# Altium footprint library Samtec_Custom.PcbLib: 7 footprints
Each footprint in its own frame and in the unit in brackets; x right, y up, seen from the top. Pads: shape width x height; smd on the part's side, far side on the other; paste and mask are expansions set on the pad; w line width, h text height; cw(c..) or ccw(c..) is an arc to the next point about the centre after c.
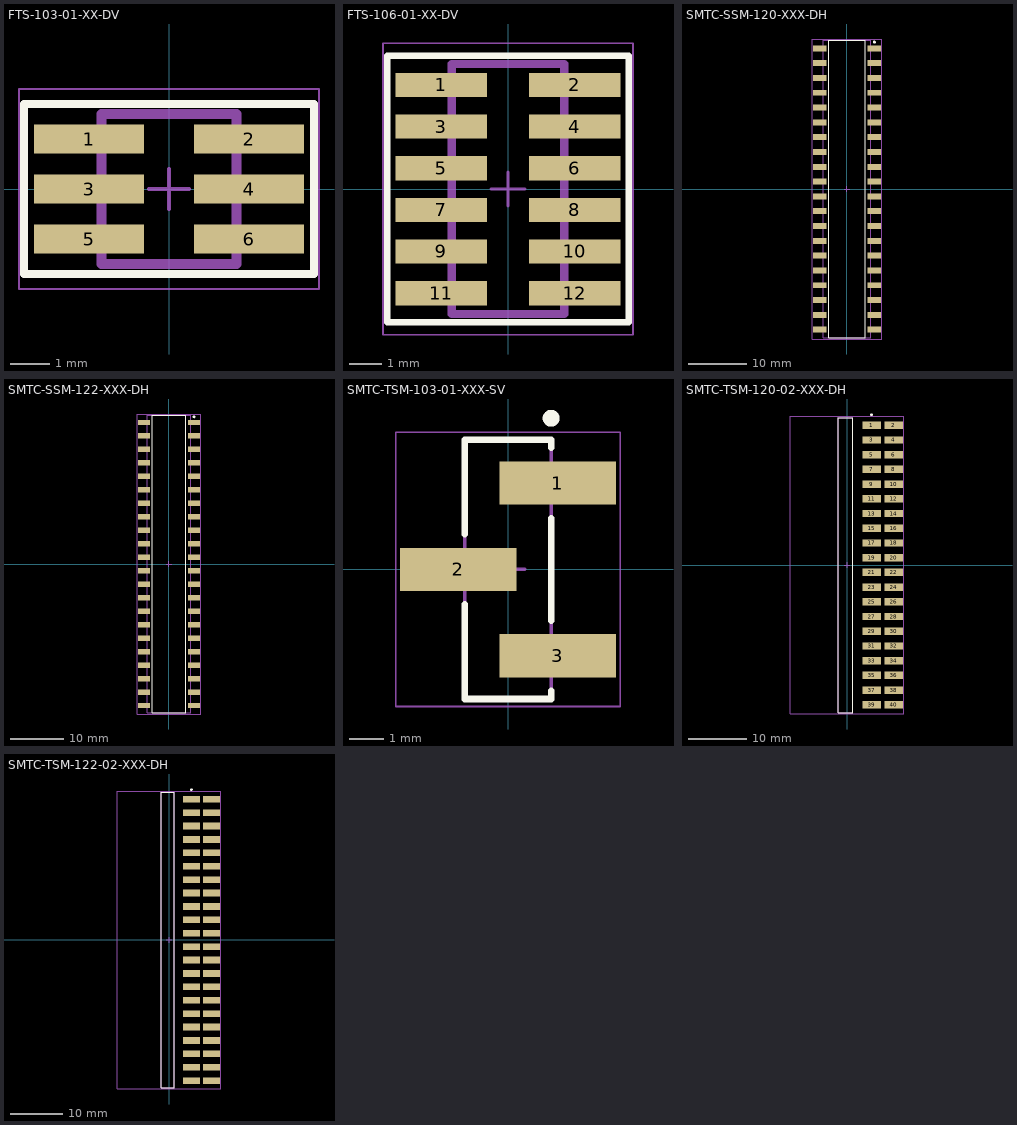
[diagram p0: the footprints below, top view; thin cyan lines are the x and y axes]

## FTS-103-01-XX-DV [mil] "0.050 inch, 2x3 Pins, double vertical, low-profile terminal strip"
pads (6):
  rect 110x29 smd mask+2: 1(-80,50) 2(80,50) 3(-80,0) 4(80,0) 5(-80,-50) 6(80,-50)
Top Overlay:
  lines w8: -145,-85 -145,85 145,85 145,-85 -145,-85
Mechanical 13:
  lines w10: -67.5,-75 67.5,-75 67.5,75 -67.5,75 -67.5,-75
Mechanical 15:
  lines w2: -150,-100 150,-100 150,100 -150,100 -150,-100
  lines w4: -20,0 20,0 ; 0,-20 0,20
3D body "FTS-103-01-F-DV.stp": height 169.75, standoff -0.25, extent -115,-74.99 115,75

## FTS-106-01-XX-DV [mil] "0.050 inch, 2x6 Pins, double vertical, low-profile terminal strip"
pads (12):
  rect 110x29 smd mask+2: 1(-80,125) 2(80,125) 3(-80,75) 4(80,75) 5(-80,25) 6(80,25) 7(-80,-25) 8(80,-25) 9(-80,-75) 10(80,-75) 11(-80,-125) 12(80,-125)
Top Overlay:
  lines w8: -145,-160 -145,160 145,160 145,-160 -145,-160
Mechanical 13:
  lines w10: -67.5,-150 67.5,-150 67.5,150 -67.5,150 -67.5,-150
Mechanical 15:
  lines w2: -150,-175 150,-175 150,175 -150,175 -150,-175
  lines w4: -20,0 20,0 ; 0,-20 0,20
3D body "FTS-106-01-F-DV.stp": height 169.75, standoff -0.25, extent -115,-149.99 115,150.01

## SMTC-SSM-120-XXX-DH [mm] "C.L. Surface Mount Socket Strip, 2x20 Pins, Horizontal, 2.54 mm Pitch, Female"
height 5.72
pads (40):
  rect 2.285x1.02 smd: 1(4.698,24.13) 2(-4.697,24.13) 3(4.698,21.59) 4(-4.697,21.59) 5(4.698,19.05) 6(-4.697,19.05) 7(4.698,16.51) 8(-4.697,16.51) 9(4.698,13.97) 10(-4.697,13.97) 11(4.698,11.43) 12(-4.697,11.43) 13(4.698,8.89) 14(-4.697,8.89) 15(4.698,6.35) 16(-4.697,6.35) 17(4.698,3.81) 18(-4.697,3.81) 19(4.698,1.27) 20(-4.697,1.27) 21(4.698,-1.27) 22(-4.697,-1.27) 23(4.698,-3.81) 24(-4.697,-3.81) 25(4.698,-6.35) 26(-4.697,-6.35) 27(4.698,-8.89) 28(-4.697,-8.89) 29(4.698,-11.43) 30(-4.697,-11.43) 31(4.698,-13.97) 32(-4.697,-13.97) 33(4.698,-16.51) 34(-4.697,-16.51) 35(4.698,-19.05) 36(-4.697,-19.05) 37(4.698,-21.59) 38(-4.697,-21.59) 39(4.698,-24.13) 40(-4.697,-24.13)
Top Overlay:
  circle w0.25: c4.698,25.19 r0.125
  lines w0.2: -3.155,-25.5 -3.155,25.5 3.155,25.5 3.155,-25.5 -3.155,-25.5
Mechanical 13:
  lines w0.1: -4.065,-25.5 -4.065,25.5 4.065,25.5 4.065,-25.5 -4.065,-25.5
Mechanical 15:
  lines w0.05: 5.965,25.725 5.965,-25.725 -5.965,-25.725 -5.965,25.725 5.969,25.725
  lines w0.1: -0.5,0 0.5,0 ; 0,-0.5 0,0.5
3D body "SSM-120-L-DH.stp": height 5.71, standoff 0, extent -5.588,-25.4 5.334,25.4

## SMTC-SSM-122-XXX-DH [mm] "C.L. Surface Mount Socket Strip, 2x22 Pins, Horizontal, 2.54 mm Pitch, Female"
height 5.72
pads (44):
  rect 2.285x1.02 smd: 1(4.698,26.67) 2(-4.697,26.67) 3(4.698,24.13) 4(-4.697,24.13) 5(4.698,21.59) 6(-4.697,21.59) 7(4.698,19.05) 8(-4.697,19.05) 9(4.698,16.51) 10(-4.697,16.51) 11(4.698,13.97) 12(-4.697,13.97) 13(4.698,11.43) 14(-4.697,11.43) 15(4.698,8.89) 16(-4.697,8.89) 17(4.698,6.35) 18(-4.697,6.35) 19(4.698,3.81) 20(-4.697,3.81) 21(4.698,1.27) 22(-4.697,1.27) 23(4.698,-1.27) 24(-4.697,-1.27) 25(4.698,-3.81) 26(-4.697,-3.81) 27(4.698,-6.35) 28(-4.697,-6.35) 29(4.698,-8.89) 30(-4.697,-8.89) 31(4.698,-11.43) 32(-4.697,-11.43) 33(4.698,-13.97) 34(-4.697,-13.97) 35(4.698,-16.51) 36(-4.697,-16.51) 37(4.698,-19.05) 38(-4.697,-19.05) 39(4.698,-21.59) 40(-4.697,-21.59) 41(4.698,-24.13) 42(-4.697,-24.13) 43(4.698,-26.67) 44(-4.697,-26.67)
Top Overlay:
  circle w0.25: c4.698,27.73 r0.125
  lines w0.2: -3.155,-28.04 -3.155,28.04 3.155,28.04 3.155,-28.04 -3.155,-28.04
Mechanical 13:
  lines w0.1: -4.065,-28.04 -4.065,28.04 4.065,28.04 4.065,-28.04 -4.065,-28.04
Mechanical 15:
  lines w0.05: 5.965,28.265 5.965,-28.265 -5.965,-28.265 -5.965,28.265 5.969,28.265
  lines w0.1: -0.5,0 0.5,0 ; 0,-0.5 0,0.5
3D body "SSM-122-L-DH.stp": height 5.71, standoff 0, extent -5.588,-27.94 5.334,27.94

## SMTC-TSM-103-01-XXX-SV [mm] "Single Row SMT Assembly, 3 Pins, Vertical, 2.54mm Pitch, Male"
height 10.105
pads (3):
  rect 3.43x1.27 smd: 1(1.46,2.54) 2(-1.46,0) 3(1.46,-2.54)
Top Overlay:
  circle w0.25: c1.271,4.445 r0.125
  lines w0.2: -1.27,-1.035 -1.27,-3.81 1.27,-3.81 1.27,-3.575 ; -1.27,1.035 -1.27,3.81 1.27,3.81 1.27,3.575 ; 1.27,-1.505 1.27,1.505
Mechanical 13:
  lines w0.1: -1.27,-3.81 -1.27,3.81 1.27,3.81 1.27,-3.81 -1.27,-3.81
Mechanical 15:
  lines w0.05: -3.3,-4.035 3.3,-4.035 3.3,4.035 -3.3,4.035 -3.3,-4.035
  lines w0.1: -0.5,0 0.5,0 ; 0,-0.5 0,0.5
3D body "TSM-103-01-L-SV.stp": height 9.65, standoff 0, extent -2.642,-3.81 2.642,3.81

## SMTC-TSM-120-02-XXX-DH [mm] "Terminal Strip Double Surface Mount, 2x20 Pins, Horizontal, 2.54mm Pitch, Male"
height 6.1
pads (40):
  rect 3.18x1.27 smd: 1(4.251,24.13) 2(8.061,24.13) 3(4.251,21.59) 4(8.061,21.59) 5(4.251,19.05) 6(8.061,19.05) 7(4.251,16.51) 8(8.061,16.51) 9(4.251,13.97) 10(8.061,13.97) 11(4.251,11.43) 12(8.061,11.43) 13(4.251,8.89) 14(8.061,8.89) 15(4.251,6.35) 16(8.061,6.35) 17(4.251,3.81) 18(8.061,3.81) 19(4.251,1.27) 20(8.061,1.27) 21(4.251,-1.27) 22(8.061,-1.27) 23(4.251,-3.81) 24(8.061,-3.81) 25(4.251,-6.35) 26(8.061,-6.35) 27(4.251,-8.89) 28(8.061,-8.89) 29(4.251,-11.43) 30(8.061,-11.43) 31(4.251,-13.97) 32(8.061,-13.97) 33(4.251,-16.51) 34(8.061,-16.51) 35(4.251,-19.05) 36(8.061,-19.05) 37(4.251,-21.59) 38(8.061,-21.59) 39(4.251,-24.13) 40(8.061,-24.13)
Top Overlay:
  circle w0.25: c4.251,25.95 r0.125
  lines w0.2: -1.515,-25.465 -1.515,25.465 1.025,25.465 1.025,-25.465 -1.515,-25.465
Mechanical 13:
  lines w0.1: -1.515,-25.465 -1.515,25.465 1.025,25.465 1.025,-25.465 -1.515,-25.465
Mechanical 15:
  lines w0.05: 9.776,-25.69 9.776,25.69 ; 9.776,-25.69 -9.776,-25.69 -9.776,25.69 9.776,25.69
  lines w0.1: -0.5,0 0.5,0 ; 0,-0.5 0,0.5
3D body "TSM-120-02-L-DH.stp": height 6.09, standoff 0, extent -9.65,-25.4 8.892,25.4

## SMTC-TSM-122-02-XXX-DH [mm] "Terminal Strip Double Surface Mount, 2x22 Pins, Horizontal, 2.54mm Pitch, Male"
height 6.1
pads (44):
  rect 3.18x1.27 smd: 1(4.249,26.67) 2(8.059,26.67) 3(4.249,24.13) 4(8.059,24.13) 5(4.249,21.59) 6(8.059,21.59) 7(4.249,19.05) 8(8.059,19.05) 9(4.249,16.51) 10(8.059,16.51) 11(4.249,13.97) 12(8.059,13.97) 13(4.249,11.43) 14(8.059,11.43) 15(4.249,8.89) 16(8.059,8.89) 17(4.249,6.35) 18(8.059,6.35) 19(4.249,3.81) 20(8.059,3.81) 21(4.249,1.27) 22(8.059,1.27) 23(4.249,-1.27) 24(8.059,-1.27) 25(4.249,-3.81) 26(8.059,-3.81) 27(4.249,-6.35) 28(8.059,-6.35) 29(4.249,-8.89) 30(8.059,-8.89) 31(4.249,-11.43) 32(8.059,-11.43) 33(4.249,-13.97) 34(8.059,-13.97) 35(4.249,-16.51) 36(8.059,-16.51) 37(4.249,-19.05) 38(8.059,-19.05) 39(4.249,-21.59) 40(8.059,-21.59) 41(4.249,-24.13) 42(8.059,-24.13) 43(4.249,-26.67) 44(8.059,-26.67)
Top Overlay:
  circle w0.25: c4.249,28.49 r0.125
  lines w0.2: -1.517,-28.005 1.023,-28.005 1.023,28.005 -1.517,28.005 -1.517,-28.005
Mechanical 13:
  lines w0.1: -1.517,-28.005 1.023,-28.005 1.023,28.005 -1.517,28.005 -1.517,-28.005
Mechanical 15:
  lines w0.05: -9.778,-28.23 -9.778,28.23 9.774,28.23 9.774,-28.23 -9.778,-28.23
  lines w0.1: -0.5,0 0.5,0 ; 0,-0.5 0,0.5
3D body "TSM-122-02-L-DH.stp": height 6.09, standoff 0, extent -9.652,-27.94 8.89,27.94